# Altium footprint library Inductance.PcbLib: 18 footprints (part 2 of 2)
Each footprint in its own frame and in the unit in brackets; x right, y up, seen from the top. Pads: shape width x height; smd on the part's side, far side on the other; paste and mask are expansions set on the pad; w line width, h text height; cw(c..) or ccw(c..) is an arc to the next point about the centre after c.
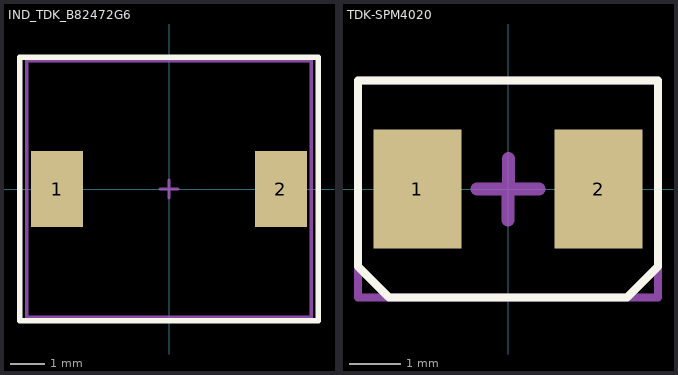
[diagram p1: the footprints below, top view; thin cyan lines are the x and y axes]

## IND_TDK_B82472G6 [mm]
pads (2):
  rect 1.5x2.2 smd: 1(-3.225,0) 2(3.225,0)
Top Overlay:
  lines w0.153: -4.3,-3.8 -4.3,3.8 4.3,3.8 4.3,-3.8 -4.3,-3.8
Top Assembly:
  lines w0.1: -4.1,-3.7 4.1,-3.7 4.1,3.7 -4.1,3.7 -4.1,-3.7
  text "'.Designator'" at -4.685,-0.755 h0.8
Top Courtyard:
  lines w0.1: -0.25,0 0.25,0 ; 0,-0.25 0,0.25 ; -4.3,-3.8 4.3,-3.8 4.3,3.8 -4.3,3.8 -4.3,-3.8
3D body "b82472-g6.step": height 4.05, standoff 0, extent -3.65,-3.65 3.65,3.65

## TDK-SPM4020 [mm]
pads (2):
  rect 1.7x2.3 smd: 1(-1.75,0) 2(1.75,0)
Top Overlay:
  lines w0.153: -2.9,-1.5 -2.9,2.1 2.9,2.1 2.9,-1.5 2.3,-2.1 -1.8,-2.1 -2.3,-2.1 -2.9,-1.5
Top Assembly:
  lines w0.153: -2.9,-2.1 2.9,-2.1 2.9,2.1 -2.9,2.1 -2.9,-2.1
  text "'.Designator'" at -4.685,-0.755 h0.8
Top Courtyard:
  lines w0.1: -2.9,-2.1 2.9,-2.1 2.9,2.1 -2.9,2.1 -2.9,-2.1
  lines w0.254: -0.6,0 0,0 ; 0,-0.6 0,0 ; 0.013,-0.011 0.013,0.589 ; 0.6,0 0,0
3D body "spm4020-lr.step": height 2, standoff 0, extent -2.241,-2.019 2.157,2.081